# Altium schematic symbol library switches.SchLib: 3 symbols
Pins are listed as number, name and electrical type; pins without a type are passive.

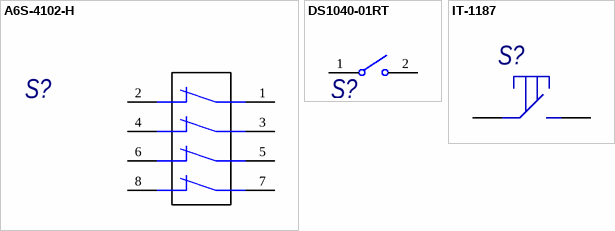
[diagram p0: symbols A6S-4102-H to IT-1187]

## A6S-4102-H
designator S?
footprint A6S-4102-H
pins: 1, 2, 3, 4, 5, 6, 7, 8

## DS1040-01RT
designator S?  (value not drawn)
DIP переключатель; Name: DS1040-01RT
footprint DS1040-01RN (Footprint not found)
pins: 1, 2

## IT-1187
designator S?  (value not drawn)
тактовая кнопка SMD; Name: IT-1187
footprint it-1187
pins: 1, 2